# EAGLE library part SAS0048 (library My_STM32F767)
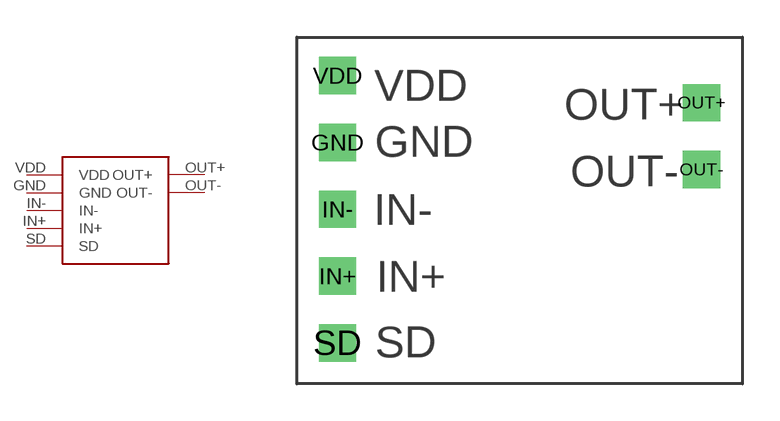
[diagram p0: symbol with the pads of SAS0048; footprint SAS0048]

Designator prefix -

## SAS0048  [SAS0048]
GND  GND
IN+  IN+
IN-  IN-
OUT+  OUT+
OUT-  OUT-
SD  SD
VDD  VDD

## Footprint SAS0048 (pad centres in mm)
drill 1 square: GND -0.01,2.75; IN+ -0.01,-2.65; IN- -0.01,0.05; OUT+ 14.7,4.35; OUT- 14.7,1.65; SD -0.01,-5.35; VDD -0.01,5.45